# Altium schematic symbol library Capacitors-LargeCeramics.SchLib: 1 symbol
Pins are listed as number, name and electrical type; pins without a type are passive.

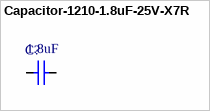
[diagram p0: symbol Capacitor-1210-1.8uF-25V-X7R]

## Capacitor-1210-1.8uF-25V-X7R
designator C?  value 1.8uF  (hidden comment: Capacitor-1210-1.8uF-25V-X7R)
Volt: 16V; Precision: X7R-10%; Package / Case: Metric 3225, EIA 1210; Mounted: Yes; Supplier 1: Digi-Key; Supplier Part Number 1: 399-3082-1-ND; Supplier 2: Digi-Key; Supplier 3: Digi-Key; Supplier 4: Digi-Key
footprint CAPACITOR-1210 (Metric 3225, EIA 1210. Per Yageo Product Specification V2.2)
pins: 1, 2